# EAGLE library part STM32C011J6M6 (library abacus_lib)
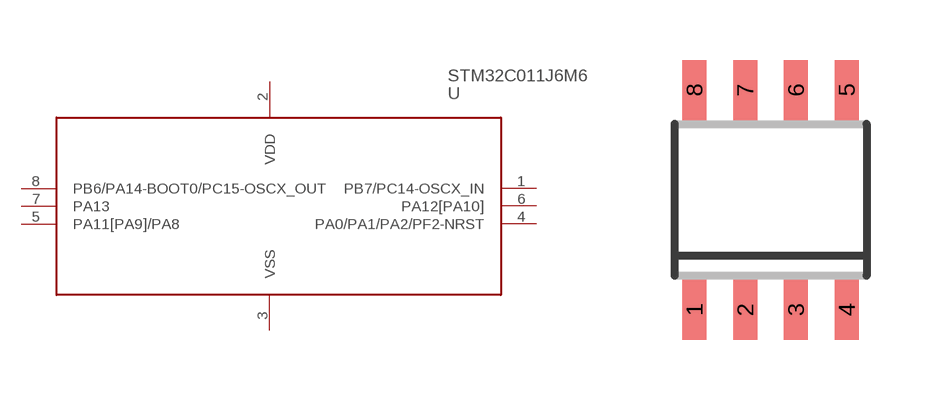
[diagram p0: symbol with the pads of SOIC8; footprint SOIC8]

Designator prefix U

## STM32C011J6M6SO8  [SOIC8]
1  PB7/PC14-OSCX_IN
2  VDD  pwr
3  VSS  pwr
4  PA0/PA1/PA2/PF2-NRST
5  PA11[PA9]/PA8
6  PA12[PA10]
7  PA13
8  PB6/PA14-BOOT0/PC15-OSCX_OUT

## Footprint SOIC8 (pad centres in mm)
SOIC-8 CASE 751-07 Source: http://www.onsemi.com/pub/Collateral/MC34164-D.PDF D (R-PDSO-G8)PLATIC SMALL-OUTLINE PACKAGE Source: http://focus.ti.com/lit/ds/symlink/tlc27l2.pdf
smd 0.6 x 1.5: 1 -1.905,-2.75; 2 -0.635,-2.75; 3 0.635,-2.75; 4 1.905,-2.75; 5 1.905,2.75; 6 0.635,2.75; 7 -0.635,2.75; 8 -1.905,2.75